# Altium schematic symbol library SamacSys.SchLib: 22 symbols
Pins are listed as number, name and electrical type; pins without a type are passive.

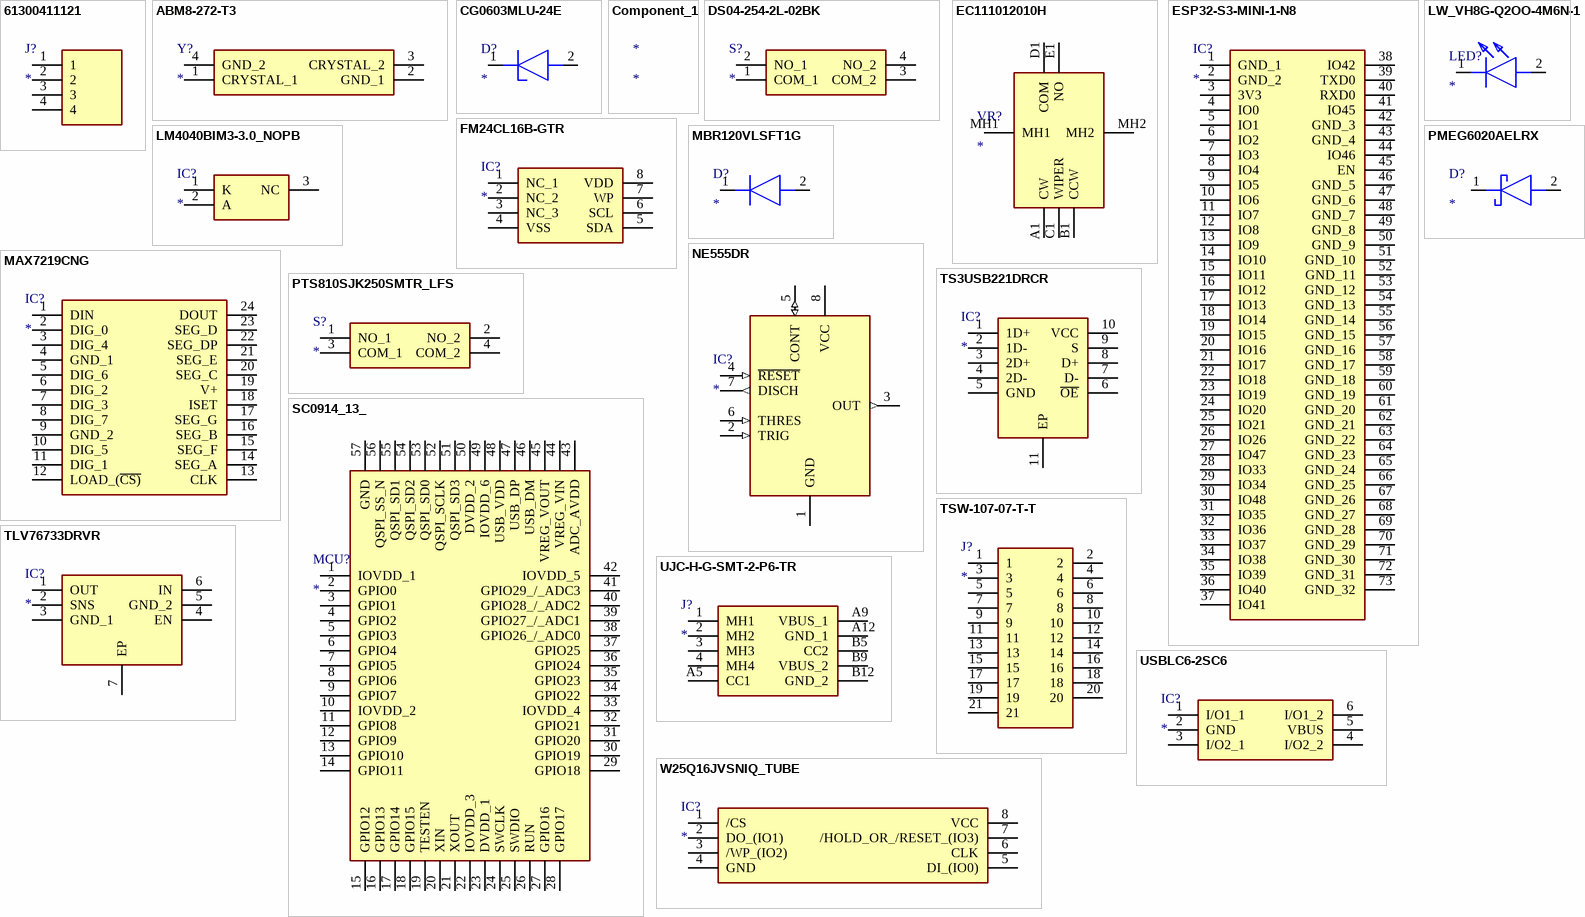
[diagram p0: symbols 61300411121 to W25Q16JVSNIQ_TUBE]

## 61300411121
designator J?
Connector; Manufacturer_Name: Wurth Elektronik; Manufacturer_Part_Number: 61300411121; Datasheet Link: http://katalog.we-online.de/em/datasheet/6130xx11121.pdf; Height: 8.54mm; Mouser Part Number: 710-61300411121; Mouser Price/Stock: https://www.mouser.co.uk/ProductDetail/Wurth-Elektronik/61300411121?qs=PhR8RmCirEYQcLLqXD8rAA%3D%3D
footprint HDRV4W95P0X254_1X4_1016X254X854P
pins: 1, 2, 3, 4

## ABM8-272-T3
designator Y?
Crystal or Oscillator; Manufacturer_Name: ABRACON; Manufacturer_Part_Number: ABM8-272-T3; Datasheet Link: https://abracon.com/datasheets/ABM8-272-T3.pdf; Height: 0.8mm; Mouser Part Number: 815-ABM8-272-T3; Mouser Price/Stock: https://www.mouser.co.uk/ProductDetail/ABRACON/ABM8-272-T3?qs=QpmGXVUTftEj6miOiJBMxQ%3D%3D
footprint ABM8272T3
pins: 1 CRYSTAL_1, 2 GND_1, 3 CRYSTAL_2, 4 GND_2

## CG0603MLU-24E
designator D?
Diode ESD (Uni-directional); Manufacturer_Name: Bourns; Manufacturer_Part_Number: CG0603MLU-24E; Datasheet Link: https://datasheet.datasheetarchive.com/originals/dk/DKDS-12/224865.pdf; Height: 0.55mm; Mouser Part Number: 652-CG0603MLU-24E; Mouser Price/Stock: https://www.mouser.co.uk/ProductDetail/Bourns/CG0603MLU-24E?qs=m8myXnDJXpWyvsqQ2sWN8w%3D%3D; Arrow Part Number: CG0603MLU-24E; Arrow Price/Stock: https://www.arrow.com/en/products/cg0603mlu-24e/bourns?region=nac
footprint DIONC1608X55N
pins: 1 K, 2 A

## Component_1
designator *

## DS04-254-2L-02BK
designator S?
Switch; Manufacturer_Name: Same Sky; Manufacturer_Part_Number: DS04-254-2L-02BK; Datasheet Link: https://www.sameskydevices.com/product/resource/supplyframepdf/ds04-254.pdf; Height: 4.51mm; Mouser Part Number: 490-DS04-254-2L-02BK; Mouser Price/Stock: https://www.mouser.co.uk/ProductDetail/CUI-Devices/DS04-254-2L-02BK?qs=wnTfsH77Xs4veThp9AwZ0w%3D%3D; Arrow Part Number: DS04-254-2L-02BK; Arrow Price/Stock: https://www.arrow.com/en/products/ds04-254-2l-02bk/cui-devices?utm_currency=USD&region=nac
footprint DS042542L02BK
pins: 1 COM_1, 2 NO_1, 3 COM_2, 4 NO_2

## EC111012010H
designator VR?
Variable Resistor; Manufacturer_Name: ALPS Electric; Manufacturer_Part_Number: EC111012010H; Datasheet Link: https://tech.alpsalpine.com/prod/e/html/encoder/incremental/ec11/ec111012010h.html; Height: 25mm; Mouser Part Number: 688-EC111012010H; Mouser Price/Stock: https://www.mouser.co.uk/ProductDetail/Alps-Alpine/EC111012010H?qs=YMSFtX0bdJDrbcKzFtERqA%3D%3D
footprint EC111012010H
pins: A1 CW, B1 CCW, C1 WIPER, D1 COM, E1 NO, MH1, MH2

## ESP32-S3-MINI-1-N8
designator IC?
Integrated Circuit; Manufacturer_Name: Espressif Systems; Manufacturer_Part_Number: ESP32-S3-MINI-1-N8; Datasheet Link: https://www.espressif.com/sites/default/files/documentation/esp32-s3-mini-1_mini-1u_datasheet_en.pdf; Height: 2.55mm; Mouser Part Number: 356-ESP32-S3-MINI1N8; Mouser Price/Stock: https://www.mouser.co.uk/ProductDetail/Espressif-Systems/ESP32-S3-MINI-1-N8?qs=XAiT9M5g4x82rl6F%2FIYUQg%3D%3D
footprint ESP32S3MINI1N8
pins: 1 GND_1, 2 GND_2, 3 3V3, 4 IO0, 5 IO1, 6 IO2, 7 IO3, 8 IO4, 9 IO5, 10 IO6, 11 IO7, 12 IO8, 13 IO9, 14 IO10, 15 IO11, 16 IO12, 17 IO13, 18 IO14, 19 IO15, 20 IO16, 21 IO17, 22 IO18, 23 IO19, 24 IO20, 25 IO21, 26 IO26, 27 IO47, 28 IO33, 29 IO34, 30 IO48, 31 IO35, 32 IO36, 33 IO37, 34 IO38, 35 IO39, 36 IO40, 37 IO41, 38 IO42, 39 TXD0, 40 RXD0, 41 IO45, 42 GND_3, 43 GND_4, 44 IO46, 45 EN, 46 GND_5, 47 GND_6, 48 GND_7, 49 GND_8, 50 GND_9, 51 GND_10, 52 GND_11, 53 GND_12, 54 GND_13, 55 GND_14, 56 GND_15, 57 GND_16, 58 GND_17, 59 GND_18, 60 GND_19, 61 GND_20, 62 GND_21, 63 GND_22, 64 GND_23, 65 GND_24, 66 GND_25, 67 GND_26, 68 GND_27, 69 GND_28, 70 GND_29, 71 GND_30, 72 GND_31, 73 GND_32

## FM24CL16B-GTR
designator IC?
Integrated Circuit; Manufacturer_Name: Infineon; Manufacturer_Part_Number: FM24CL16B-GTR; Datasheet Link: http://www.cypress.com/file/136491/download; Height: 1.727mm; Mouser Part Number: 877-FM24CL16B-GTR; Mouser Price/Stock: https://www.mouser.co.uk/ProductDetail/Infineon-Technologies/FM24CL16B-GTR?qs=pA5MXup5wxEg33VanoiarA%3D%3D; Arrow Part Number: FM24CL16B-GTR; Arrow Price/Stock: https://www.arrow.com/en/products/fm24cl16b-gtr/cypress-semiconductor?region=nac
footprint SOIC127P602X173-8N
pins: 1 NC_1, 2 NC_2, 3 NC_3, 4 VSS, 5 SDA, 6 SCL, 7 WP, 8 VDD

## LM4040BIM3-3.0_NOPB
designator IC?
Integrated Circuit; Manufacturer_Name: Texas Instruments; Manufacturer_Part_Number: LM4040BIM3-3.0/NOPB; Datasheet Link: http://www.ti.com/lit/gpn/lm4040-n; Height: 1.12mm; Mouser Part Number: 926-LM4040BIM330NOPB; Mouser Price/Stock: https://www.mouser.co.uk/ProductDetail/Texas-Instruments/LM4040BIM3-3.0-NOPB?qs=QbsRYf82W3FThDimo07Imw%3D%3D; Arrow Part Number: LM4040BIM3-3.0/NOPB; Arrow Price/Stock: https://www.arrow.com/en/products/lm4040bim3-3.0nopb/texas-instruments?region=nac
footprint SOT95P237X112-3N
pins: 1 K, 2 A, 3 NC

## LW_VH8G-Q2OO-4M6N-1
designator LED?
LED; Manufacturer_Name: ams OSRAM; Manufacturer_Part_Number: LW VH8G-Q2OO-4M6N-1; Datasheet Link: https://look.ams-osram.com/m/6a061397583b7b2c/original/LW-VH8G.pdf; Height: 0.35mm; Mouser Part Number: 720-LWVH8G-Q2S24M6N1; Mouser Price/Stock: https://www.mouser.co.uk/ProductDetail/ams-OSRAM/LW-VH8G-Q2OO-4M6N-1?qs=%252BEew9%252B0nqrAt4wn7N3MZJQ%3D%3D
footprint LWVH8GQ2OO4M6N1
pins: 1 K, 2 A

## MAX7219CNG
designator IC?
Integrated Circuit; Manufacturer_Name: Analog Devices; Manufacturer_Part_Number: MAX7219CNG; Datasheet Link: https://datasheets.maximintegrated.com/en/ds/MAX7219-MAX7221.pdf; Height: 4.572mm; Mouser Part Number: 700-MAX7219CNG-NR; Mouser Price/Stock: https://www.mouser.co.uk/ProductDetail/Analog-Devices-Maxim-Integrated/MAX7219CNG?qs=p6VZ%252BklCkRToQRlZGegBBA%3D%3D
footprint DIP794W56P254L3054H457Q24N
pins: 1 DIN, 2 DIG_0, 3 DIG_4, 4 GND_1, 5 DIG_6, 6 DIG_2, 7 DIG_3, 8 DIG_7, 9 GND_2, 10 DIG_5, 11 DIG_1, 12 LOAD_(~{CS)}, 13 CLK, 14 SEG_A, 15 SEG_F, 16 SEG_B, 17 SEG_G, 18 ISET, 19 V+, 20 SEG_C, 21 SEG_E, 22 SEG_DP, 23 SEG_D, 24 DOUT

## MBR120VLSFT1G
designator D?
Diode; Manufacturer_Name: onsemi; Manufacturer_Part_Number: MBR120VLSFT1G; Datasheet Link: https://www.onsemi.com/pub/Collateral/MBR120VLSFT1-D.PDF; Height: 0.98mm; Mouser Part Number: 863-MBR120VLSFT1G; Mouser Price/Stock: https://www.mouser.co.uk/ProductDetail/onsemi/MBR120VLSFT1G?qs=3JMERSakebpX%252BkItPpFCkg%3D%3D; Arrow Part Number: MBR120VLSFT1G; Arrow Price/Stock: https://www.arrow.com/en/products/mbr120vlsft1g/on-semiconductor?utm_currency=USD&region=nac
footprint SODFL3616X98N
pins: 1 K, 2 A

## NE555DR
designator IC?
Integrated Circuit; Manufacturer_Name: Texas Instruments; Manufacturer_Part_Number: NE555DR; Datasheet Link: http://www.ti.com/lit/ds/symlink/ne555.pdf; Height: 1.75mm; Mouser Part Number: 595-NE555DR; Mouser Price/Stock: https://www.mouser.com/Search/Refine.aspx?Keyword=595-NE555DR; RS Part Number: 1218414; RS Price/Stock: http://uk.rs-online.com/web/p/products/1218414
footprint SOIC127P600X175-8N
pins: 1 GND (power), 2 TRIG (in), 3 OUT (out), 4 ~{RESET} (in), 5 CONT (io), 6 THRES (in), 7 DISCH (out), 8 VCC (power)

## PMEG6020AELRX
designator D?
Schottky Diode; Manufacturer_Name: Nexperia; Manufacturer_Part_Number: PMEG6020AELRX; Datasheet Link: https://assets.nexperia.com/documents/data-sheet/PMEG6020AELR.pdf; Height: 1.1mm; Mouser Part Number: 771-PMEG6020AELRX; Mouser Price/Stock: https://www.mouser.co.uk/ProductDetail/Nexperia/PMEG6020AELRX?qs=bel5lzaZNxSSRPwNuBp8ow%3D%3D; Arrow Part Number: PMEG6020AELRX; Arrow Price/Stock: https://www.arrow.com/en/products/pmeg6020aelrx/nexperia?utm_currency=USD&region=nac
footprint SODFL3517X110N
pins: 1 K, 2 A

## PTS810SJK250SMTR_LFS
designator S?
Switch; Manufacturer_Name: C & K COMPONENTS; Manufacturer_Part_Number: PTS810SJK250SMTR LFS; Datasheet Link: https://www.ckswitches.com/media/1476/pts810.pdf; Height: 2.7mm; Mouser Part Number: 611-PTS810SJK250SMTR; Mouser Price/Stock: https://www.mouser.co.uk/ProductDetail/CK/PTS810SJK250SMTR-LFS?qs=Imq1NPwxi77Ow0tzRIznfA%3D%3D
footprint PTS810SJK250SMTRLFS
pins: 1 NO_1, 2 NO_2, 3 COM_1, 4 COM_2

## SC0914_13_
designator MCU?
ARM mcu; Manufacturer_Name: RASPBERRY-PI; Manufacturer_Part_Number: SC0914(13); Datasheet Link: https://datasheets.raspberrypi.com/rp2040/rp2040-datasheet.pdf; Height: 0.9mm; Mouser Part Number: 358-SC091413; Mouser Price/Stock: https://www.mouser.co.uk/ProductDetail/Raspberry-Pi/SC091413?qs=T%252BzbugeAwjhr%252BUbBr3TJcw%3D%3D
footprint SC091413
pins: 1 IOVDD_1, 2 GPIO0, 3 GPIO1, 4 GPIO2, 5 GPIO3, 6 GPIO4, 7 GPIO5, 8 GPIO6, 9 GPIO7, 10 IOVDD_2, 11 GPIO8, 12 GPIO9, 13 GPIO10, 14 GPIO11, 15 GPIO12, 16 GPIO13, 17 GPIO14, 18 GPIO15, 19 TESTEN, 20 XIN, 21 XOUT, 22 IOVDD_3, 23 DVDD_1, 24 SWCLK, 25 SWDIO, 26 RUN, 27 GPIO16, 28 GPIO17, 29 GPIO18, 30 GPIO19, 31 GPIO20, 32 GPIO21, 33 IOVDD_4, 34 GPIO22, 35 GPIO23, 36 GPIO24, 37 GPIO25, 38 GPIO26_/_ADC0, 39 GPIO27_/_ADC1, 40 GPIO28_/_ADC2, 41 GPIO29_/_ADC3, 42 IOVDD_5, 43 ADC_AVDD, 44 VREG_VIN, 45 VREG_VOUT, 46 USB_DM, 47 USB_DP, 48 USB_VDD, 49 IOVDD_6, 50 DVDD_2, 51 QSPI_SD3, 52 QSPI_SCLK, 53 QSPI_SD0, 54 QSPI_SD2, 55 QSPI_SD1, 56 QSPI_SS_N, 57 GND

## TLV76733DRVR
designator IC?
Integrated Circuit; Manufacturer_Name: Texas Instruments; Manufacturer_Part_Number: TLV76733DRVR; Datasheet Link: http://www.ti.com/lit/gpn/TLV767; Height: 0.8mm; Mouser Part Number: 595-TLV76733DRVR; Mouser Price/Stock: https://www.mouser.co.uk/ProductDetail/Texas-Instruments/TLV76733DRVR?qs=9r4v7xj2LnmGIkwTuPlHig%3D%3D; Arrow Part Number: TLV76733DRVR; Arrow Price/Stock: https://www.arrow.com/en/products/tlv76733drvr/texas-instruments?utm_currency=USD&region=europe
footprint SON65P200X200X80-7N
pins: 1 OUT, 2 SNS, 3 GND_1, 4 EN, 5 GND_2, 6 IN, 7 EP

## TS3USB221DRCR
designator IC?
Integrated Circuit; Manufacturer_Name: Texas Instruments; Manufacturer_Part_Number: TS3USB221DRCR; Datasheet Link: http://www.ti.com/lit/gpn/ts3usb221; Height: 1mm; Mouser Part Number: 595-TS3USB221DRCR; Mouser Price/Stock: https://www.mouser.co.uk/ProductDetail/Texas-Instruments/TS3USB221DRCR?qs=C701iA%252BXzMyUL1Y8NYRziA%3D%3D; Arrow Part Number: TS3USB221DRCR; Arrow Price/Stock: https://www.arrow.com/en/products/ts3usb221drcr/texas-instruments?utm_currency=USD&region=nac
footprint SON50P300X300X100-11N-D
pins: 1 1D+, 2 1D-, 3 2D+, 4 2D-, 5 GND, 6 ~{OE}, 7 D-, 8 D+, 9 S, 10 VCC, 11 EP

## TSW-107-07-T-T
designator J?
Connector; Manufacturer_Name: SAMTEC; Manufacturer_Part_Number: TSW-107-07-T-T; Datasheet Link: http://suddendocs.samtec.com/catalog_english/tsw_th.pdf; Height: 8.38mm; Mouser Part Number: 200-TSW10707TT; Mouser Price/Stock: https://www.mouser.co.uk/ProductDetail/Samtec/TSW-107-07-T-T?qs=rU5fayqh%252BE0tarwbhfyNIQ%3D%3D; Arrow Part Number: TSW-107-07-T-T; Arrow Price/Stock: https://www.arrow.com/en/products/tsw-107-07-t-t/samtec
footprint HDRV21W64P254_3X7_1778X749X838P
pins: 1, 2, 3, 4, 5, 6, 7, 8, 9, 10, 11, 12, 13, 14, 15, 16, 17, 18, 19, 20, 21

## UJC-H-G-SMT-2-P6-TR
designator J?
Connector; Manufacturer_Name: Same Sky; Manufacturer_Part_Number: UJC-H-G-SMT-2-P6-TR; Datasheet Link: https://www.sameskydevices.com/product/resource/ujc-h-g-smt-2-p6-tr.pdf; Height: 3.36mm; Mouser Part Number: 179-UJCHGSMT2P6TR; Mouser Price/Stock: https://www.mouser.co.uk/ProductDetail/Same-Sky/UJC-H-G-SMT-2-P6-TR?qs=IKkN%2F947nfApFV8T6rOqww%3D%3D
footprint UJCHGSMT2P6TR
pins: 1 MH1, 2 MH2, 3 MH3, 4 MH4, A5 CC1, A9 VBUS_1, A12 GND_1, B5 CC2, B9 VBUS_2, B12 GND_2

## USBLC6-2SC6
designator IC?
Integrated Circuit; Manufacturer_Name: STMicroelectronics; Manufacturer_Part_Number: USBLC6-2SC6; Datasheet Link: http://www.st.com/st-web-ui/static/active/en/resource/technical/document/datasheet/CD00050750.pdf; Height: 1.45mm; Mouser Part Number: 511-USBLC6-2SC6; Mouser Price/Stock: https://www.mouser.co.uk/ProductDetail/STMicroelectronics/USBLC6-2SC6?qs=po45yt2pPpu%2FhNIlwQdTlg%3D%3D; Arrow Part Number: USBLC6-2SC6; Arrow Price/Stock: https://www.arrow.com/en/products/usblc6-2sc6/stmicroelectronics?utm_currency=USD&region=europe
footprint SOT95P280X145-6N
pins: 1 I/O1_1, 2 GND, 3 I/O2_1, 4 I/O2_2, 5 VBUS, 6 I/O1_2

## W25Q16JVSNIQ_TUBE
designator IC?
Integrated Circuit; Manufacturer_Name: Winbond; Manufacturer_Part_Number: W25Q16JVSNIQ/TUBE; Datasheet Link: http://www.winbond.com/resource-files/w25q16jv%20spi%20revg%2003222018%20plus.pdf; Height: 1.75mm; Arrow Part Number: W25Q16JVSNIQ/TUBE; Arrow Price/Stock: https://www.arrow.com/en/products/w25q16jvsniqtube/winbond-electronics?utm_currency=USD&region=europe
footprint SOIC127P600X175-8N
pins: 1 /CS, 2 DO_(IO1), 3 /WP_(IO2), 4 GND, 5 DI_(IO0), 6 CLK, 7 /HOLD_OR_/RESET_(IO3), 8 VCC